# EAGLE library part SN74ACT24 (library sn74act24)
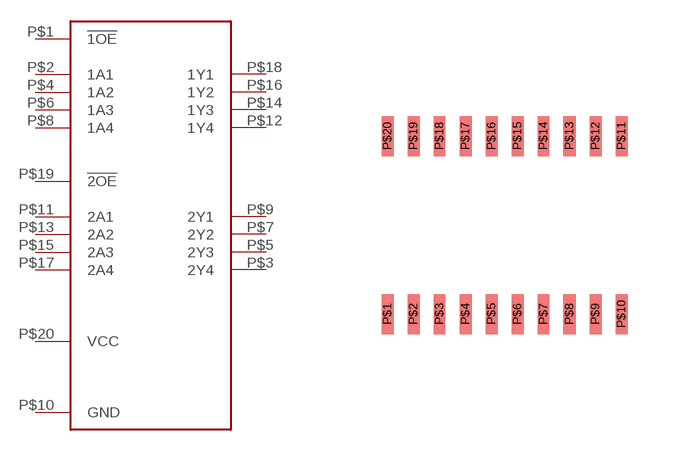
[diagram p0: symbol with the pads of R-PDS0-G20; footprint R-PDS0-G20]

Designator prefix -

## SN74ACT24  [R-PDS0-G20]
P$1  !1OE
P$2  1A1
P$3  2Y4
P$4  1A2
P$5  2Y3
P$6  1A3
P$7  2Y2
P$8  1A4
P$9  2Y1
P$10  GND
P$11  2A1
P$12  1Y4
P$13  2A2
P$14  1Y3
P$15  2A3
P$16  1Y2
P$17  2A4
P$18  1Y1
P$19  !2OE
P$20  VCC

## Footprint R-PDS0-G20 (pad centres in mm)
smd 0.3 x 1: P$1 0,0; P$2 0.65,0; P$3 1.3,0; P$4 1.95,0; P$5 2.6,0; P$6 3.25,0; P$7 3.9,0; P$8 4.55,0; P$9 5.2,0; P$10 5.85,0; P$11 5.85,4.45; P$12 5.2,4.45; P$13 4.55,4.45; P$14 3.9,4.45; P$15 3.25,4.45; P$16 2.6,4.45; P$17 1.95,4.45; P$18 1.3,4.45; P$19 0.65,4.45; P$20 0,4.45